# EAGLE library part INA125 (library alexwhittemore-eagle)
INA125 Texas Instruments/Burr Brown INA 125 Instrumentation Amplifier
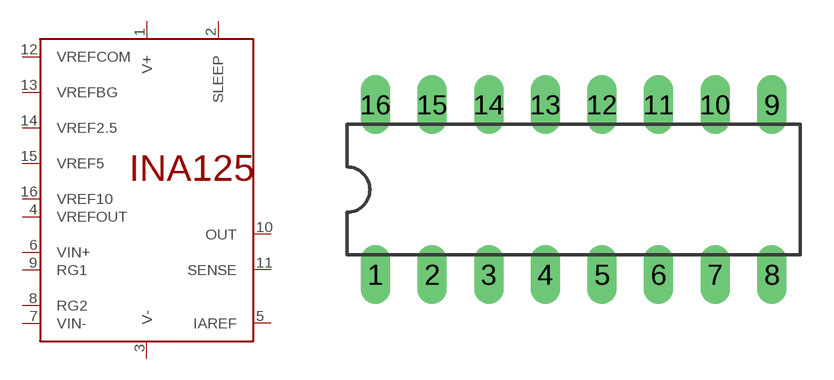
[diagram p1: symbol with the pads of DIL16; footprint DIL16]

Designator prefix IC

## INA125  [DIL16]
1  V+  pwr
2  SLEEP  in
3  V-
4  VREFOUT  out
5  IAREF
6  VIN+  in
7  VIN-  in
8  RG2
9  RG1
10  OUT  out
11  SENSE  out
12  VREFCOM  in
13  VREFBG  out
14  VREF2.5  out
15  VREF5  out
16  VREF10  out

## Footprint DIL16 (pad centres in mm)
Dual In Line Package
drill 0.813 long: 1 -8.89,-3.81; 2 -6.35,-3.81; 3 -3.81,-3.81; 4 -1.27,-3.81; 5 1.27,-3.81; 6 3.81,-3.81; 7 6.35,-3.81; 8 8.89,-3.81; 9 8.89,3.81; 10 6.35,3.81; 11 3.81,3.81; 12 1.27,3.81; 13 -1.27,3.81; 14 -3.81,3.81; 15 -6.35,3.81; 16 -8.89,3.81